# Altium footprint library KF2D.PcbLib: 21 footprints (part 1 of 2)
Each footprint in its own frame and in the unit in brackets; x right, y up, seen from the top. Pads: shape width x height; smd on the part's side, far side on the other; paste and mask are expansions set on the pad; w line width, h text height; cw(c..) or ccw(c..) is an arc to the next point about the centre after c.
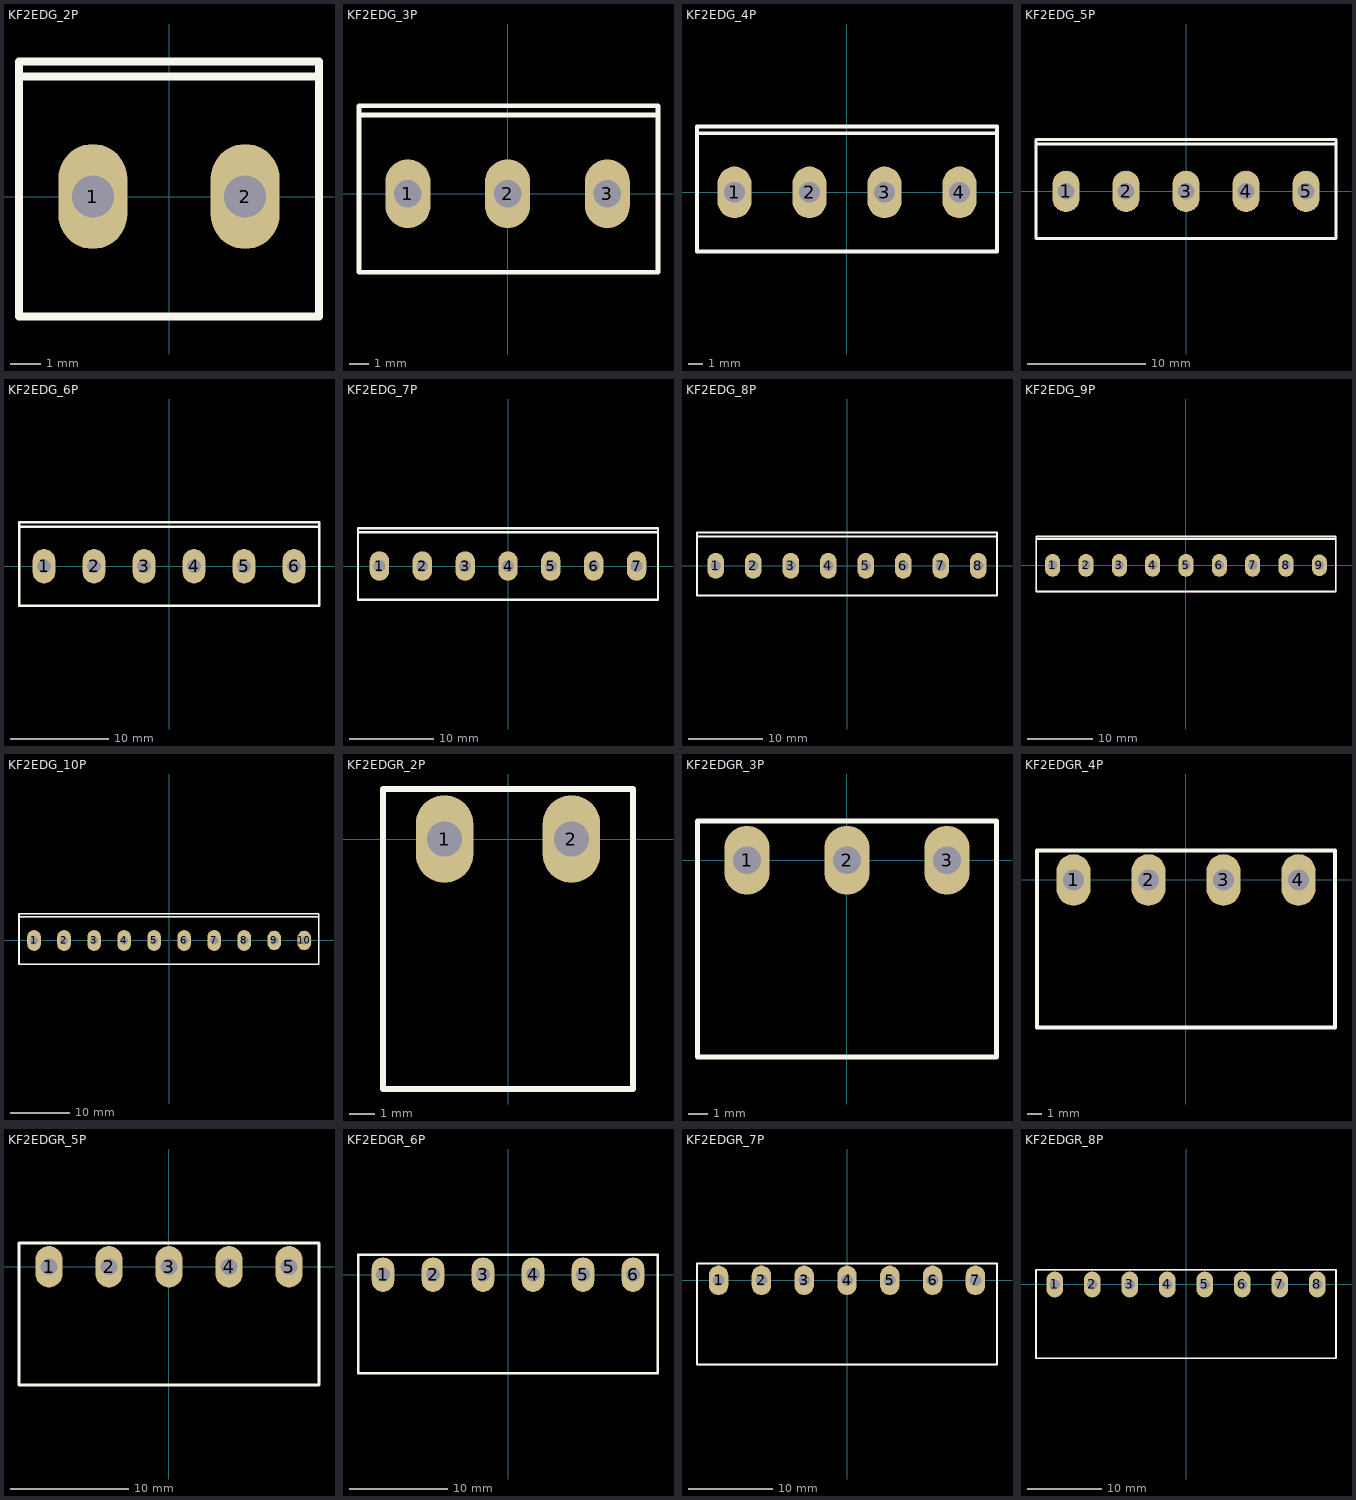
[diagram p0: the footprints below, top view; thin cyan lines are the x and y axes]

## KF2EDG_2P [mm]
pads (2):
  oval 2.3x3.5 hole 1.4: 1(-2.54,0) 2(2.54,0)
Top Overlay:
  lines w0.254: -5,4 -5,4.5 5,4.5 5,4 ; -5,4 -5,-4 5,-4 5,4 ; -5,4 5,4
Mechanical 15:
  lines w0.1: -5,-4 5,-4 5,4 -5,4 -5,-4
3D body "Header-2EDG-5.08-2.STEP": height 12, standoff -2.5, extent -5,-4 5,4.471

## KF2EDG_3P [mm]
pads (3):
  oval 2.3x3.5 hole 1.4: 1(-5.08,0) 2(0,0) 3(5.08,0)
Top Overlay:
  lines w0.254: 7.66,4 -7.58,4 ; -7.58,4 -7.58,4.48 7.66,4.48 7.66,-4 -7.58,-4 -7.58,4
Mechanical 15:
  lines w0.1: -7.62,-4 7.62,-4 7.62,4 -7.62,4 -7.62,-4
3D body "Header-2EDG-5.08-3.STEP": height 12, standoff -2.5, extent -7.62,-4 7.62,4.471

## KF2EDG_4P [mm]
pads (4):
  oval 2.3x3.5 hole 1.4: 1(-7.62,0) 2(-2.54,0) 3(2.54,0) 4(7.62,0)
Top Overlay:
  lines w0.254: 10.16,4 -10.16,4 ; -10.16,4 -10.16,4.46 10.16,4.46 10.16,-4 -10.16,-4 -10.16,4
Mechanical 15:
  lines w0.1: -10.16,-4 -10.16,4 10.16,4 10.16,-4 -10.16,-4
3D body "Header-2EDG-5.08-4.STEP": height 12, standoff -2.5, extent -10.16,-4 10.16,4.471

## KF2EDG_5P [mm]
pads (5):
  oval 2.3x3.5 hole 1.4: 1(-10.16,0) 2(-5.08,0) 3(0,0) 4(5.08,0) 5(10.16,0)
Top Overlay:
  lines w0.254: 12.7,4 -12.7,4 ; -12.7,4 -12.7,-4 12.7,-4 12.7,4.4 -12.7,4.4 -12.7,4
Mechanical 15:
  lines w0.1: -12.7,-4 -12.7,4 12.7,4 12.7,-4 -12.7,-4
3D body "Header-2EDG-5.08-5.STEP": height 12, standoff -2.5, extent -12.7,-4 12.7,4.471

## KF2EDG_6P [mm]
pads (6):
  oval 2.3x3.5 hole 1.4: 1(-12.7,0) 2(-7.62,0) 3(-2.54,0) 4(2.54,0) 5(7.62,0) 6(12.7,0)
Top Overlay:
  lines w0.254: 15.24,4 -15.24,4 ; -15.24,4 -15.24,4.46 15.24,4.46 15.24,-4 -15.24,-4 -15.24,4
Mechanical 15:
  lines w0.1: -15.24,-4 15.24,-4 15.24,4 -15.24,4 -15.24,-4
3D body "Header-2EDG-5.08-6.STEP": height 12, standoff -2.5, extent -15.24,-4 15.24,4.471

## KF2EDG_7P [mm]
pads (7):
  oval 2.3x3.5 hole 1.4: 1(-15.24,0) 2(-10.16,0) 3(-5.08,0) 4(0,0) 5(5.08,0) 6(10.16,0) 7(15.24,0)
Top Overlay:
  lines w0.254: 17.78,4 -17.78,4 ; -17.78,4 -17.78,-4 17.78,-4 17.78,4.48 -17.78,4.48 -17.78,4
Mechanical 15:
  lines w0.1: -17.78,-4 -17.78,4 17.78,4 17.78,-4 -17.78,-4
3D body "Header-2EDG-5.08-7.STEP": height 12, standoff -2.5, extent -17.78,-4 17.78,4.471

## KF2EDG_8P [mm]
pads (8):
  oval 2.3x3.5 hole 1.4: 1(-17.78,0) 2(-12.7,0) 3(-7.62,0) 4(-2.54,0) 5(2.54,0) 6(7.62,0) 7(12.7,0) 8(17.78,0)
Top Overlay:
  lines w0.254: -20.32,4.48 -20.32,4 ; -20.3,4.5 20.32,4.5 20.32,-4 -20.32,-4 -20.32,4 ; 20.32,4 -20.32,4
Mechanical 15:
  lines w0.1: -20.32,-4 -20.32,4 20.32,4 20.32,-4 -20.32,-4
3D body "Header-2EDG-5.08-8.STEP": height 12, standoff -2.5, extent -20.32,-4 20.32,4.471

## KF2EDG_9P [mm]
pads (9):
  oval 2.3x3.5 hole 1.4: 1(-20.32,0) 2(-15.24,0) 3(-10.16,0) 4(-5.08,0) 5(0,0) 6(5.08,0) 7(10.16,0) 8(15.24,0)
  oval 2.3x3.3 hole 1.4: 9(20.32,0)
Top Overlay:
  lines w0.254: 22.8,4 -22.8,4 ; -22.8,4 -22.8,4.4 22.8,4.4 22.8,-4 -22.8,-4 -22.8,4
Mechanical 15:
  lines w0.1: -22.86,-4 -22.86,4 22.86,4 22.86,-4 -22.86,-4
3D body "Header-2EDG-5.08-9.step": height 12.1, standoff -4.5, extent -22.86,-3.8 22.86,4.4

## KF2EDG_10P [mm]
pads (10):
  oval 2.3x3.5 hole 1.4: 1(-22.86,0) 2(-17.78,0) 3(-12.7,0) 4(-7.62,0) 5(-2.54,0) 6(2.54,0) 7(7.62,0) 8(12.7,0)
  oval 2.3x3.3 hole 1.4: 9(17.78,0) 10(22.86,0)
Top Overlay:
  lines w0.254: 25.3,4 -25.4,4 ; -25.4,4 -25.4,-4 25.3,-4 25.3,4.5 -25.4,4.5 -25.4,4
Mechanical 15:
  lines w0.1: -25.4,-4 -25.4,4 25.36,4 25.36,-4 -25.4,-4
3D body "Header-2EDG-5.08-10.step": height 12.1, standoff -4.5, extent -25.4,-3.725 25.4,4.475

## KF2EDGR_2P [mm]
pads (2):
  oval 2.3x3.5 hole 1.4: 1(-2.54,0) 2(2.54,0)
Top Overlay:
  lines w0.254: -5,-10 -5,2 5,2 5,-10 -5,-10
Mechanical 15:
  lines w0.1: -5.08,-10 5.08,-10 5.08,2 -5.08,2 -5.08,-10
3D body "Header-2EDGR-5.08-2.STEP": height 8.6, standoff -3.5, extent -5.08,-10 5.08,2.002

## KF2EDGR_3P [mm]
pads (3):
  oval 2.3x3.5 hole 1.4: 1(-5.08,0) 2(0,0) 3(5.08,0)
Top Overlay:
  lines w0.254: -7.6,-10 7.6,-10 7.6,2 -7.6,2 -7.6,-10
Mechanical 15:
  lines w0.1: -7.62,-10 7.62,-10 7.62,2 -7.62,2 -7.62,-10
3D body "Header-2EDGR-5.08-3.STEP": height 8.7, standoff -3.4, extent -7.62,-10.002 7.62,2

## KF2EDGR_4P [mm]
pads (4):
  oval 2.3x3.5 hole 1.4: 1(-7.62,0) 2(-2.54,0) 3(2.54,0) 4(7.62,0)
Top Overlay:
  lines w0.254: -10.1,-10 10.1,-10 10.1,2 -10.1,2 -10.1,-10
Mechanical 15:
  lines w0.1: -10.16,-10 -10.16,2 10.16,2 10.16,-10 -10.16,-10
3D body "Header-2EDGR-5.08-4.STEP": height 8.6, standoff -3.5, extent -10.16,-10.002 10.16,2

## KF2EDGR_5P [mm]
pads (5):
  oval 2.3x3.5 hole 1.4: 1(-10.16,0) 2(-5.08,0) 3(0,0) 4(5.08,0) 5(10.16,0)
Top Overlay:
  lines w0.254: -12.7,-10 -12.7,2 12.7,2 12.7,-10 -12.7,-10
Mechanical 15:
  lines w0.1: -12.7,-10 12.7,-10 12.7,2 -12.7,2 -12.7,-10
3D body "Header-2EDGR-5.08-5P.STEP": height 8.6, standoff -3.5, extent -12.7,-10.002 12.7,2

## KF2EDGR_6P [mm]
pads (6):
  oval 2.3x3.5 hole 1.4: 1(-12.7,0) 2(-7.62,0) 3(-2.54,0) 4(2.54,0) 5(7.62,0) 6(12.7,0)
Top Overlay:
  lines w0.254: -15.2,-10 -15.2,2 15.2,2 15.2,-10 -15.2,-10
Mechanical 15:
  lines w0.1: -15.24,-10 -15.24,2 15.24,2 15.24,-10 -15.24,-10
3D body "Header-2EDGR-5.08-6.STEP": height 8.6, standoff -3.5, extent -15.24,-10.002 15.24,2

## KF2EDGR_7P [mm]
pads (7):
  oval 2.3x3.5 hole 1.4: 1(-15.24,0) 2(-10.16,0) 3(-5.08,0) 4(0,0) 5(5.08,0) 6(10.16,0) 7(15.24,0)
Top Overlay:
  lines w0.254: -17.8,-10 -17.8,2 17.8,2 17.8,-10 -17.8,-10
Mechanical 15:
  lines w0.1: -17.78,-10 17.78,-10 17.78,2 -17.78,2 -17.78,-10
3D body "Header-2EDGR-5.08-7.STEP": height 8.6, standoff -3.5, extent -17.78,-10.002 17.78,2

## KF2EDGR_8P [mm]
pads (8):
  oval 2.3x3.5 hole 1.4: 1(-17.78,0) 2(-12.7,0) 3(-7.62,0) 4(-2.54,0) 5(2.54,0) 6(7.62,0) 7(12.7,0) 8(17.78,0)
Top Overlay:
  lines w0.254: -20.3,-10 20.3,-10 20.3,2 -20.3,2 -20.3,-10
Mechanical 15:
  lines w0.1: -20.32,-10 -20.32,2 20.32,2 20.32,-10 -20.32,-10
3D body "Header-2EDGR-5.08-8.STEP": height 8.6, standoff -3.5, extent -20.32,-10.002 20.32,2